# EAGLE library part ES_EURO_PWR (library Electrosmith-Boards)
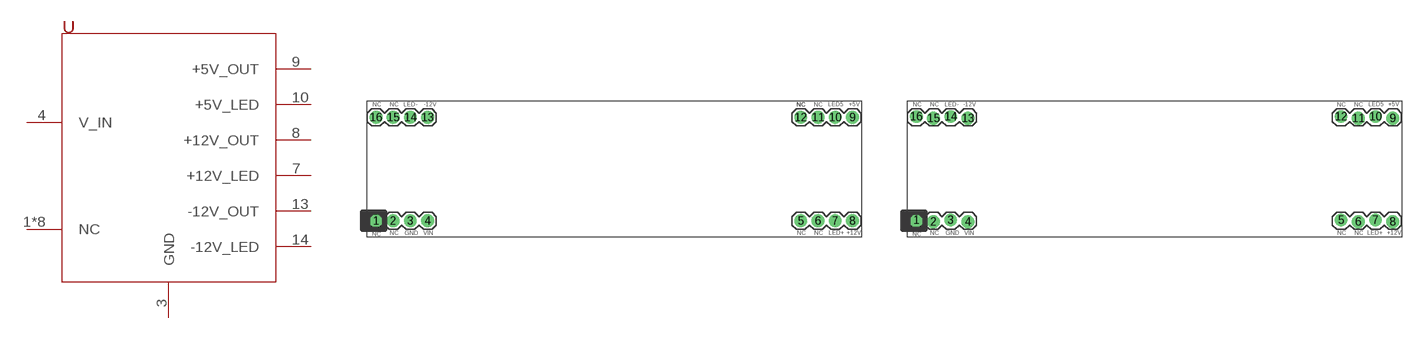
[diagram p13: symbol with the pads of ES_EURO_PWR; footprints ES_EURO_PWR, ES_EURO_PWR_LOCK]

Designator prefix U

## ES_EURO_PWR  [ES_EURO_PWR]
1  NC
2  NC
3  GND
4  V_IN
5  NC
6  NC
7  +12V_LED
8  +12V_OUT
9  +5V_OUT
10  +5V_LED
11  NC
12  NC
13  -12V_OUT
14  -12V_LED
15  NC
16  NC

## ES_EURO_PWR_LOCK  [ES_EURO_PWR_LOCK]
Pads as for ES_EURO_PWR

## Footprint ES_EURO_PWR (pad centres in mm)
drill 1.016 pad 1.88 square: 1 1.344,2.413
drill 1.016 pad 1.88: 2 3.884,2.413; 3 6.424,2.413; 4 8.964,2.413; 5 63.934,2.413; 6 66.474,2.413; 7 69.014,2.413; 8 71.554,2.413; 9 71.554,17.653; 10 69.014,17.653; 11 66.474,17.653; 12 63.934,17.653; 13 8.964,17.653; 14 6.424,17.653; 15 3.884,17.653; 16 1.344,17.653

## Footprint ES_EURO_PWR_LOCK (pad centres in mm)
drill 1.016 pad 1.88 square: 1 1.344,2.54
drill 1.016 pad 1.88: 2 3.884,2.286; 3 6.424,2.54; 4 8.964,2.286; 5 63.934,2.54; 6 66.474,2.286; 7 69.014,2.54; 8 71.554,2.286; 9 71.554,17.526; 10 69.014,17.78; 11 66.474,17.526; 12 63.934,17.78; 13 8.964,17.526; 14 6.424,17.78; 15 3.884,17.526; 16 1.344,17.78